# EAGLE library part LM3S1601 (library launchpad_bp)
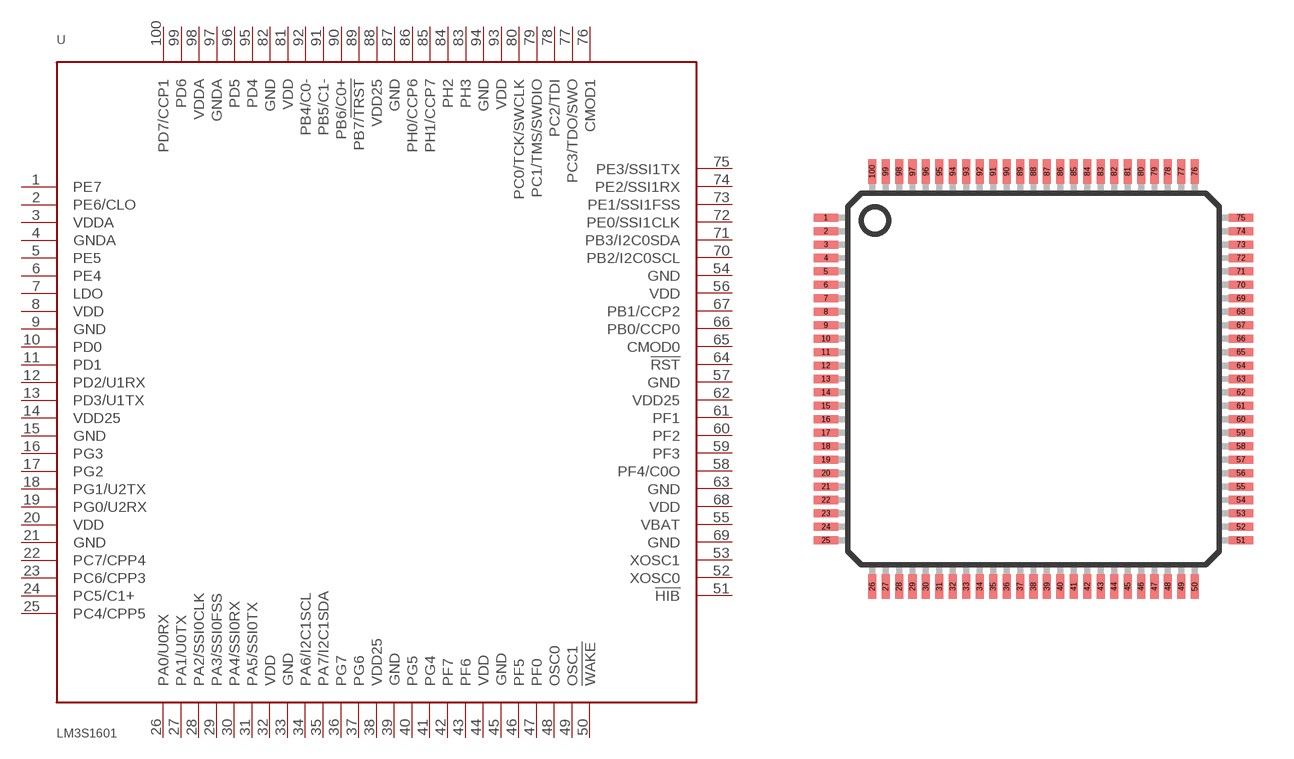
[diagram p5: symbol with the pads of LQFP100; footprint LQFP100]

Designator prefix -

## LM3S1601  [LQFP100]
1  PE7
2  PE6/CLO
3  VDDA  pwr
4  GNDA  pwr
5  PE5
6  PE4
7  LDO  pwr
8  VDD  pwr
9  GND  pwr
10  PD0
11  PD1
12  PD2/U1RX
13  PD3/U1TX
14  VDD25  pwr
15  GND  pwr
16  PG3
17  PG2
18  PG1/U2TX
19  PG0/U2RX
20  VDD  pwr
21  GND  pwr
22  PC7/CPP4
23  PC6/CPP3
24  PC5/C1+
25  PC4/CPP5
26  PA0/U0RX
27  PA1/U0TX
28  PA2/SSI0CLK
29  PA3/SSI0FSS
30  PA4/SSI0RX
31  PA5/SSI0TX
32  VDD  pwr
33  GND  pwr
34  PA6/I2C1SCL
35  PA7/I2C1SDA
36  PG7
37  PG6
38  VDD25  pwr
39  GND  pwr
40  PG5
41  PG4
42  PF7
43  PF6
44  VDD  pwr
45  GND  pwr
46  PF5
47  PF0
48  OSC0  pas
49  OSC1  pas
50  !WAKE  in
51  !HIB  in
52  XOSC0  pas
53  XOSC1  pas
54  GND  pwr
55  VBAT  pwr
56  VDD  pwr
57  GND  pwr
58  PF4/C0O
59  PF3
60  PF2
61  PF1
62  VDD25  pwr
63  GND  pwr
64  !RST  in
65  CMOD0
66  PB0/CCP0
67  PB1/CCP2
68  VDD  pwr
69  GND  pwr
70  PB2/I2C0SCL
71  PB3/I2C0SDA
72  PE0/SSI1CLK
73  PE1/SSI1FSS
74  PE2/SSI1RX
75  PE3/SSI1TX
76  CMOD1
77  PC3/TDO/SWO
78  PC2/TDI
79  PC1/TMS/SWDIO
80  PC0/TCK/SWCLK
81  VDD  pwr
82  GND  pwr
83  PH3
84  PH2
85  PH1/CCP7
86  PH0/CCP6
87  GND  pwr
88  VDD25  pwr
89  PB7/!TRST
90  PB6/C0+
91  PB5/C1-
92  PB4/C0-
93  VDD  pwr
94  GND  pwr
95  PD4
96  PD5
97  GNDA  pwr
98  VDDA  pwr
99  PD6
100  PD7/CCP1

## Footprint LQFP100 (pad centres in mm)
Low Profile Quad Flat Pack
smd 0.9 x 0.3: 1 -7.72,6; 2 -7.72,5.5; 3 -7.72,5; 4 -7.72,4.5; 5 -7.72,4; 6 -7.72,3.5; 7 -7.72,3; 8 -7.72,2.5; 9 -7.72,2; 10 -7.72,1.5; 11 -7.72,1; 12 -7.72,0.5; 13 -7.72,0; 14 -7.72,-0.5; 15 -7.72,-1; 16 -7.72,-1.5; 17 -7.72,-2; 18 -7.72,-2.5; 19 -7.72,-3; 20 -7.72,-3.5; 21 -7.72,-4; 22 -7.72,-4.5; 23 -7.72,-5; 24 -7.72,-5.5; 25 -7.72,-6; 51 7.72,-6; 52 7.72,-5.5; 53 7.72,-5; 54 7.72,-4.5; 55 7.72,-4; 56 7.72,-3.5; 57 7.72,-3; 58 7.72,-2.5; 59 7.72,-2; 60 7.72,-1.5; 61 7.72,-1; 62 7.72,-0.5; 63 7.72,0; 64 7.72,0.5; 65 7.72,1; 66 7.72,1.5; 67 7.72,2; 68 7.72,2.5; 69 7.72,3; 70 7.72,3.5; 71 7.72,4; 72 7.72,4.5; 73 7.72,5; 74 7.72,5.5; 75 7.72,6
smd 0.3 x 0.9: 26 -6,-7.72; 27 -5.5,-7.72; 28 -5,-7.72; 29 -4.5,-7.72; 30 -4,-7.72; 31 -3.5,-7.72; 32 -3,-7.72; 33 -2.5,-7.72; 34 -2,-7.72; 35 -1.5,-7.72; 36 -1,-7.72; 37 -0.5,-7.72; 38 0,-7.72; 39 0.5,-7.72; 40 1,-7.72; 41 1.5,-7.72; 42 2,-7.72; 43 2.5,-7.72; 44 3,-7.72; 45 3.5,-7.72; 46 4,-7.72; 47 4.5,-7.72; 48 5,-7.72; 49 5.5,-7.72; 50 6,-7.72; 76 6,7.72; 77 5.5,7.72; 78 5,7.72; 79 4.5,7.72; 80 4,7.72; 81 3.5,7.72; 82 3,7.72; 83 2.5,7.72; 84 2,7.72; 85 1.5,7.72; 86 1,7.72; 87 0.5,7.72; 88 0,7.72; 89 -0.5,7.72; 90 -1,7.72; 91 -1.5,7.72; 92 -2,7.72; 93 -2.5,7.72; 94 -3,7.72; 95 -3.5,7.72; 96 -4,7.72; 97 -4.5,7.72; 98 -5,7.72; 99 -5.5,7.72; 100 -6,7.72